# Altium footprint library SL_Other.PcbLib: 72 footprints (part 1 of 5)
Each footprint in its own frame and in the unit in brackets; x right, y up, seen from the top. Pads: shape width x height; smd on the part's side, far side on the other; paste and mask are expansions set on the pad; w line width, h text height; cw(c..) or ccw(c..) is an arc to the next point about the centre after c.
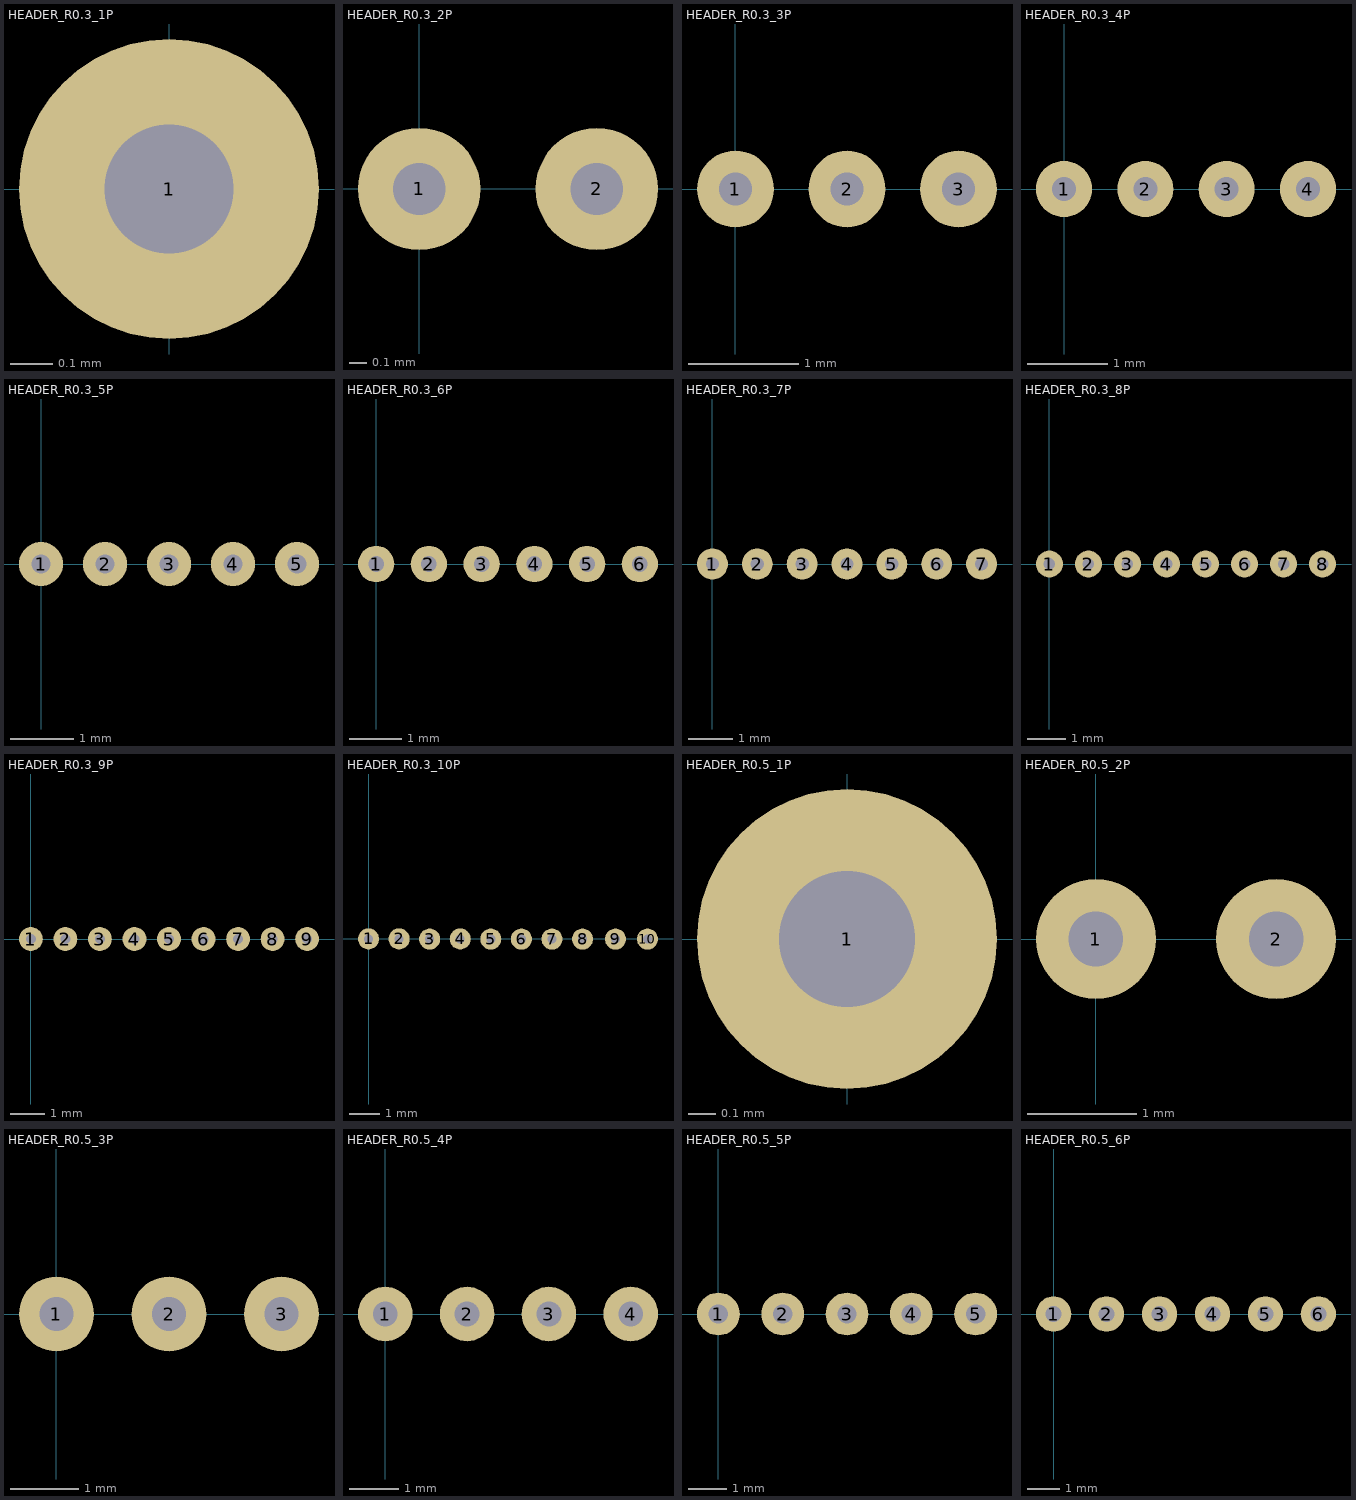
[diagram p0: the footprints below, top view; thin cyan lines are the x and y axes]

## HEADER_R0.3_1P [mm]
pads (1):
  round 0.7 hole 0.3: 1(0,0)

## HEADER_R0.3_2P [mm]
pads (2):
  round 0.7 hole 0.3: 1(0,0) 2(1.016,0)

## HEADER_R0.3_3P [mm]
pads (3):
  round 0.7 hole 0.3: 1(0,0) 2(1.016,0) 3(2.032,0)

## HEADER_R0.3_4P [mm]
pads (4):
  round 0.7 hole 0.3: 1(0,0) 2(1.016,0) 3(2.032,0) 4(3.048,0)

## HEADER_R0.3_5P [mm]
pads (5):
  round 0.7 hole 0.3: 1(0,0) 2(1.016,0) 3(2.032,0) 4(3.048,0) 5(4.064,0)

## HEADER_R0.3_6P [mm]
pads (6):
  round 0.7 hole 0.3: 1(0,0) 2(1.016,0) 3(2.032,0) 4(3.048,0) 5(4.064,0) 6(5.08,0)

## HEADER_R0.3_7P [mm]
pads (7):
  round 0.7 hole 0.3: 1(0,0) 2(1.016,0) 3(2.032,0) 4(3.048,0) 5(4.064,0) 6(5.08,0) 7(6.096,0)

## HEADER_R0.3_8P [mm]
pads (8):
  round 0.7 hole 0.3: 1(0,0) 2(1.016,0) 3(2.032,0) 4(3.048,0) 5(4.064,0) 6(5.08,0) 7(6.096,0) 8(7.112,0)

## HEADER_R0.3_9P [mm]
pads (9):
  round 0.7 hole 0.3: 1(0,0) 2(1.016,0) 3(2.032,0) 4(3.048,0) 5(4.064,0) 6(5.08,0) 7(6.096,0) 8(7.112,0) 9(8.128,0)

## HEADER_R0.3_10P [mm]
pads (10):
  round 0.7 hole 0.3: 1(0,0) 2(1.016,0) 3(2.032,-0.009) 4(3.048,0) 5(4.064,-0.009) 6(5.08,-0.009) 7(6.096,-0.009) 8(7.112,-0.009) 9(8.208,-0.009) 10(9.271,-0.009)

## HEADER_R0.5_1P [mm]
pads (1):
  round 1.1 hole 0.5: 1(0,0)

## HEADER_R0.5_2P [mm]
pads (2):
  round 1.1 hole 0.5: 1(0,0) 2(1.651,0)

## HEADER_R0.5_3P [mm]
pads (3):
  round 1.1 hole 0.5: 1(0,0) 2(1.651,0) 3(3.302,0)

## HEADER_R0.5_4P [mm]
pads (4):
  round 1.1 hole 0.5: 1(0,0) 2(1.651,0) 3(3.302,0) 4(4.953,0)

## HEADER_R0.5_5P [mm]
pads (5):
  round 1.1 hole 0.5: 1(0,0) 2(1.651,0) 3(3.302,0) 4(4.953,0) 5(6.604,0)

## HEADER_R0.5_6P [mm]
pads (6):
  round 1.1 hole 0.5: 1(0,0) 2(1.651,0) 3(3.302,0) 4(4.953,0) 5(6.604,0) 6(8.255,0)